# Altium integrated library ESR10EZPF2200.IntLib: 1 symbol
Pins are listed as number, name and electrical type; pins without a type are passive.

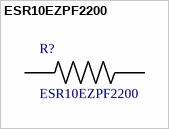
[diagram p0: symbol ESR10EZPF2200]

## ESR10EZPF2200
designator R?
/ ESR Series 0805 220 O Â±1 % 0.4 W Â±100 ppm/Â°C SMT Anti-Surge Chip Resistor /; MF: Rohm; Digi-Key_Part_Number: RHM220AECT-ND; SnapEDA_Link: https://www.snapeda.com/parts/ESR10EZPF2200/Rohm/view-part/?ref=snap; Package: 2012 Rohm Semiconductor; MP: ESR10EZPF2200; Digi-Key_Purchase_URL: https://www.digikey.com/product-detail/en/rohm-semiconductor/ESR10EZPF2200/RHM220AECT-ND/1983835?utm_source=snapeda&utm_medium=aggregator&utm_campaign=symbol; Value: *
footprint *RESC2012X65N
pins: 1, 2